# EAGLE library part PIC16F1532X (library MCUs)
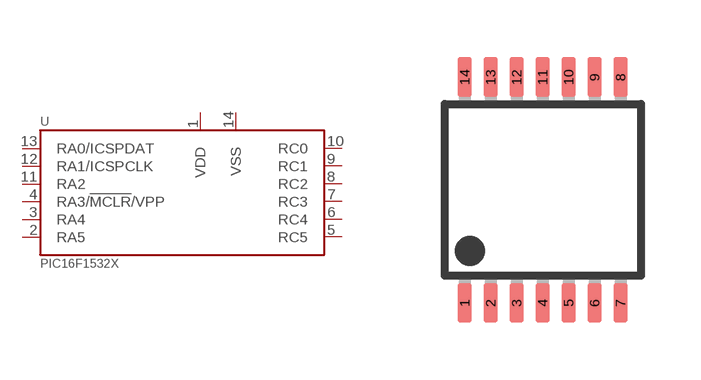
[diagram p3: symbol with the pads of TSSOP-14; footprint TSSOP-14]

Designator prefix U

## PIC16F1532X-X/ST  [TSSOP-14]
1  VDD  sup
2  RA5
3  RA4
4  RA3/!MCLR!/VPP
5  RC5
6  RC4
7  RC3
8  RC2
9  RC1
10  RC0
11  RA2
12  RA1/ICSPCLK
13  RA0/ICSPDAT
14  VSS  sup

## Footprint TSSOP-14 (pad centres in mm)
smd 0.35 x 1: 1 -1.95,-2.825; 2 -1.3,-2.825; 3 -0.65,-2.825; 4 0,-2.825; 5 0.65,-2.825; 6 1.3,-2.825; 7 1.95,-2.825; 8 1.95,2.825; 9 1.3,2.825; 10 0.65,2.825; 11 0,2.825; 12 -0.65,2.825; 13 -1.3,2.825; 14 -1.95,2.825